# EAGLE library part HDC1080DMBR (library circuit_tree)
IC
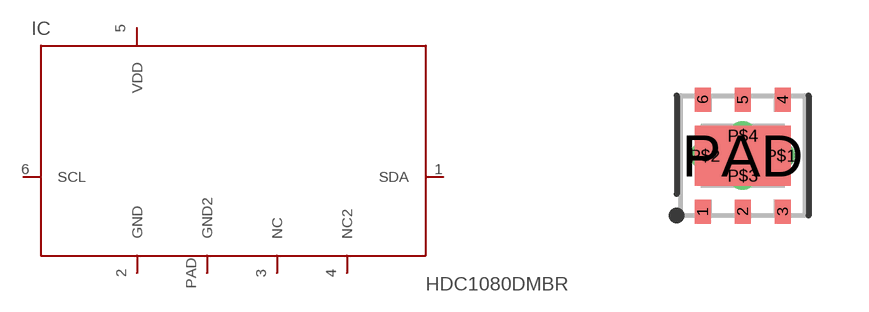
[diagram p3: symbol with the pads of WSON-6; footprint WSON-6]

Designator prefix IC

## HDC1080DMBR  [WSON-6]
1  SDA  pas
2  GND  pas
3  NC  pas
4  NC2  pas
5  VDD  pas
6  SCL  pas
PAD  GND2  pas

## Footprint WSON-6 (pad centres in mm)
6-Pin WSON
smd 0.4 x 0.6: 1 -1,-1.4; 2 0,-1.4; 3 1,-1.4; 4 1,1.4; 5 0,1.4; 6 -1,1.4
drill 0.2 pad 0.3: P$1 0.95,0; P$2 -0.95,0; P$3 0,-0.5; P$4 0,0.5
smd 2.4 x 1.5: PAD 0,0